# EAGLE library part XEF-216-512-FB236 (library sjg-xmos)
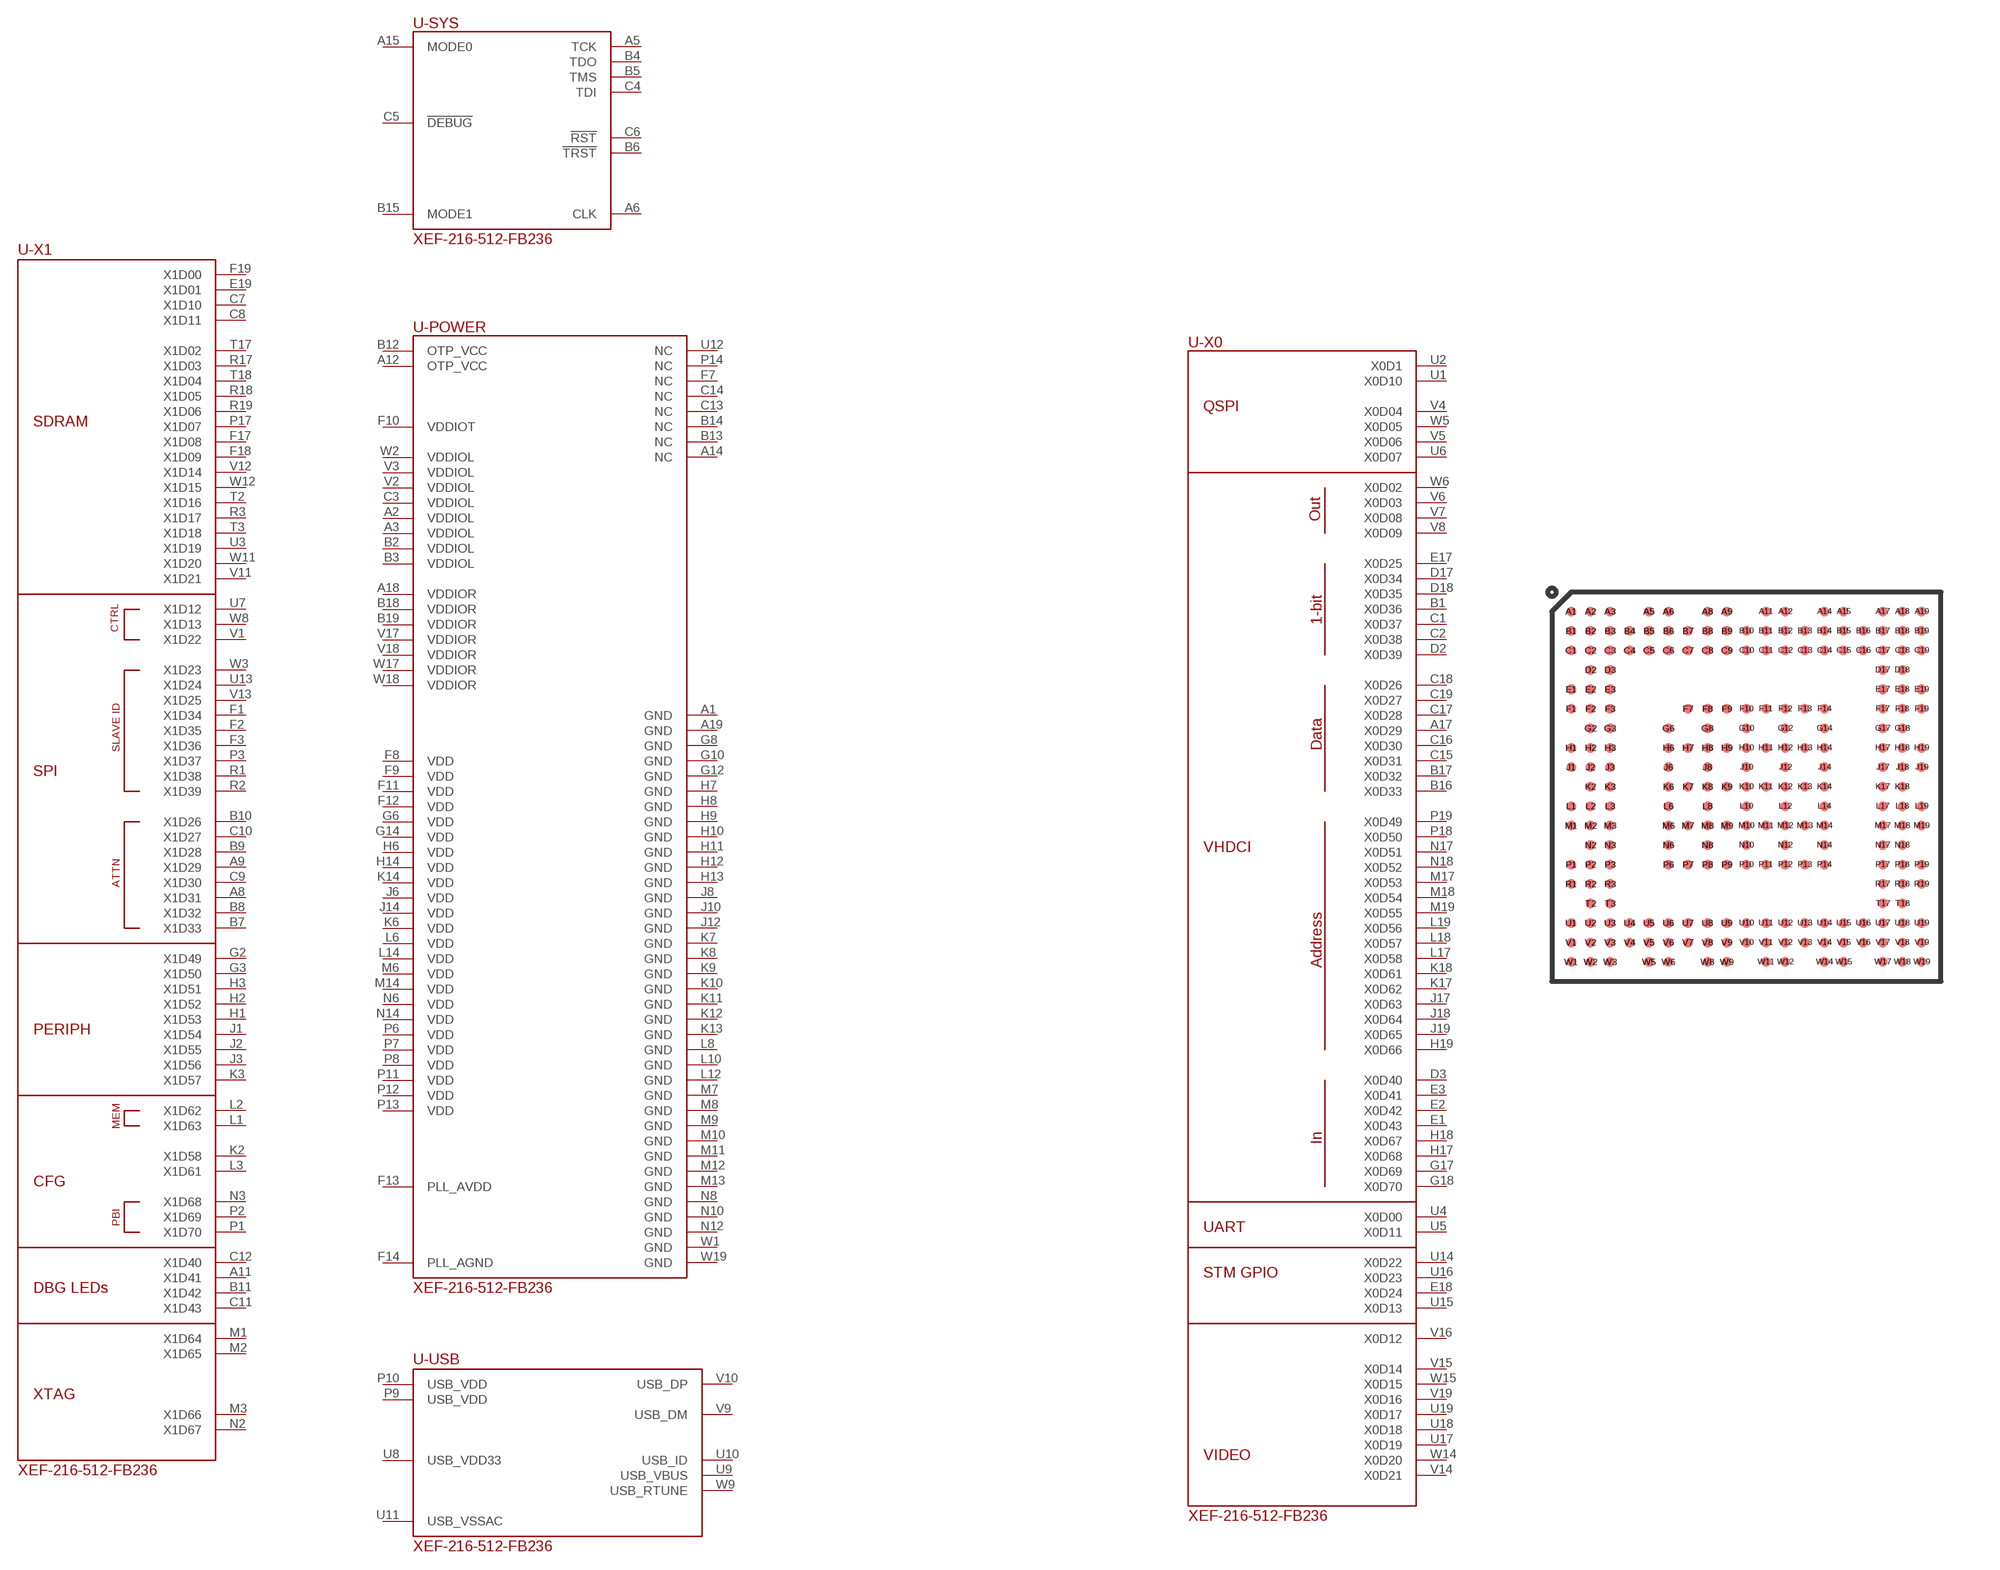
[diagram p5: symbol with the pads of BGA236; footprint BGA236]

Designator prefix -; gates -POWER=XEF-216-512-FB236-PWR -SYS=XEF-216-512-FB236-SYS -USB=XEF-216-512-FB236-USB -X0=XEF-216-512-FB236-X0 -X1=XEF-216-512-FB236-X1

## XEF-216-512-FB236  [BGA236]
A1  -POWER:GND
A2  -POWER:VDDIOL
A3  -POWER:VDDIOL
A5  -SYS:TCK
A6  -SYS:CLK
A8  -X1:X1D31
A9  -X1:X1D29
A11  -X1:X1D41
A12  -POWER:OTP_VCC
A14  -POWER:NC
A15  -SYS:MODE0
A17  -X0:X0D29
A18  -POWER:VDDIOR
A19  -POWER:GND
B1  -X0:X0D36
B2  -POWER:VDDIOL
B3  -POWER:VDDIOL
B4  -SYS:TDO
B5  -SYS:TMS
B6  -SYS:!TRST!
B7  -X1:X1D33
B8  -X1:X1D32
B9  -X1:X1D28
B10  -X1:X1D26
B11  -X1:X1D42
B12  -POWER:OTP_VCC
B13  -POWER:NC
B14  -POWER:NC
B15  -SYS:MODE1
B16  -X0:X0D33
B17  -X0:X0D32
B18  -POWER:VDDIOR
B19  -POWER:VDDIOR
C1  -X0:X0D37
C2  -X0:X0D38
C3  -POWER:VDDIOL
C4  -SYS:TDI
C5  -SYS:!DEBUG!
C6  -SYS:!RST!
C7  -X1:X1D10
C8  -X1:X1D11
C9  -X1:X1D30
C10  -X1:X1D27
C11  -X1:X1D43
C12  -X1:X1D40
C13  -POWER:NC
C14  -POWER:NC
C15  -X0:X0D31
C16  -X0:X0D30
C17  -X0:X0D28
C18  -X0:X0D26
C19  -X0:X0D27
D2  -X0:X0D39
D3  -X0:X0D40
D17  -X0:X0D34
D18  -X0:X0D35
E1  -X0:X0D43
E2  -X0:X0D42
E3  -X0:X0D41
E17  -X0:X0D25
E18  -X0:X0D24
E19  -X1:X1D01
F1  -X1:X1D34
F2  -X1:X1D35
F3  -X1:X1D36
F7  -POWER:NC
F8  -POWER:VDD
F9  -POWER:VDD
F10  -POWER:VDDIOT
F11  -POWER:VDD
F12  -POWER:VDD
F13  -POWER:PLL_AVDD
F14  -POWER:PLL_AGND
F17  -X1:X1D08
F18  -X1:X1D09
F19  -X1:X1D00
G2  -X1:X1D49
G3  -X1:X1D50
G6  -POWER:VDD
G8  -POWER:GND
G10  -POWER:GND
G12  -POWER:GND
G14  -POWER:VDD
G17  -X0:X0D69
G18  -X0:X0D70
H1  -X1:X1D53
H2  -X1:X1D52
H3  -X1:X1D51
H6  -POWER:VDD
H7  -POWER:GND
H8  -POWER:GND
H9  -POWER:GND
H10  -POWER:GND
H11  -POWER:GND
H12  -POWER:GND
H13  -POWER:GND
H14  -POWER:VDD
H17  -X0:X0D68
H18  -X0:X0D67
H19  -X0:X0D66
J1  -X1:X1D54
J2  -X1:X1D55
J3  -X1:X1D56
J6  -POWER:VDD
J8  -POWER:GND
J10  -POWER:GND
J12  -POWER:GND
J14  -POWER:VDD
J17  -X0:X0D63
J18  -X0:X0D64
J19  -X0:X0D65
K2  -X1:X1D58
K3  -X1:X1D57
K6  -POWER:VDD
K7  -POWER:GND
K8  -POWER:GND
K9  -POWER:GND
K10  -POWER:GND
K11  -POWER:GND
K12  -POWER:GND
K13  -POWER:GND
K14  -POWER:VDD
K17  -X0:X0D62
K18  -X0:X0D61
L1  -X1:X1D63
L2  -X1:X1D62
L3  -X1:X1D61
L6  -POWER:VDD
L8  -POWER:GND
L10  -POWER:GND
L12  -POWER:GND
L14  -POWER:VDD
L17  -X0:X0D58
L18  -X0:X0D57
L19  -X0:X0D56
M1  -X1:X1D64
M2  -X1:X1D65
M3  -X1:X1D66
M6  -POWER:VDD
M7  -POWER:GND
M8  -POWER:GND
M9  -POWER:GND
M10  -POWER:GND
M11  -POWER:GND
M12  -POWER:GND
M13  -POWER:GND
M14  -POWER:VDD
M17  -X0:X0D53
M18  -X0:X0D54
M19  -X0:X0D55
N2  -X1:X1D67
N3  -X1:X1D68
N6  -POWER:VDD
N8  -POWER:GND
N10  -POWER:GND
N12  -POWER:GND
N14  -POWER:VDD
N17  -X0:X0D51
N18  -X0:X0D52
P1  -X1:X1D70
P2  -X1:X1D69
P3  -X1:X1D37
P6  -POWER:VDD
P7  -POWER:VDD
P8  -POWER:VDD
P9  -USB:USB_VDD
P10  -USB:USB_VDD
P11  -POWER:VDD
P12  -POWER:VDD
P13  -POWER:VDD
P14  -POWER:NC
P17  -X1:X1D07
P18  -X0:X0D50
P19  -X0:X0D49
R1  -X1:X1D38
R2  -X1:X1D39
R3  -X1:X1D17
R17  -X1:X1D03
R18  -X1:X1D05
R19  -X1:X1D06
T2  -X1:X1D16
T3  -X1:X1D18
T17  -X1:X1D02
T18  -X1:X1D04
U1  -X0:X0D10
U2  -X0:X0D1
U3  -X1:X1D19
U4  -X0:X0D00
U5  -X0:X0D11
U6  -X0:X0D07
U7  -X1:X1D12
U8  -USB:USB_VDD33
U9  -USB:USB_VBUS
U10  -USB:USB_ID
U11  -USB:USB_VSSAC
U12  -POWER:NC
U13  -X1:X1D24
U14  -X0:X0D22
U15  -X0:X0D13
U16  -X0:X0D23
U17  -X0:X0D19
U18  -X0:X0D18
U19  -X0:X0D17
V1  -X1:X1D22
V2  -POWER:VDDIOL
V3  -POWER:VDDIOL
V4  -X0:X0D04
V5  -X0:X0D06
V6  -X0:X0D03
V7  -X0:X0D08
V8  -X0:X0D09
V9  -USB:USB_DM
V10  -USB:USB_DP
V11  -X1:X1D21
V12  -X1:X1D14
V13  -X1:X1D25
V14  -X0:X0D21
V15  -X0:X0D14
V16  -X0:X0D12
V17  -POWER:VDDIOR
V18  -POWER:VDDIOR
V19  -X0:X0D16
W1  -POWER:GND
W2  -POWER:VDDIOL
W3  -X1:X1D23
W5  -X0:X0D05
W6  -X0:X0D02
W8  -X1:X1D13
W9  -USB:USB_RTUNE
W11  -X1:X1D20
W12  -X1:X1D15
W14  -X0:X0D20
W15  -X0:X0D15
W17  -POWER:VDDIOR
W18  -POWER:VDDIOR
W19  -POWER:GND

## Footprint BGA236 (pad centres in mm)
smd 0.25 x 0.25: A1 -4.5,4.5; A2 -4,4.5; A3 -3.5,4.5; A5 -2.5,4.5; A6 -2,4.5; A8 -1,4.5; A9 -0.5,4.5; A11 0.5,4.5; A12 1,4.5; A14 2,4.5; A15 2.5,4.5; A17 3.5,4.5; A18 4,4.5; A19 4.5,4.5; B1 -4.5,4; B2 -4,4; B3 -3.5,4; B4 -3,4; B5 -2.5,4; B6 -2,4; B7 -1.5,4; B8 -1,4; B9 -0.5,4; B10 0,4; B11 0.5,4; B12 1,4; B13 1.5,4; B14 2,4; B15 2.5,4; B16 3,4; B17 3.5,4; B18 4,4; B19 4.5,4; C1 -4.5,3.5; C2 -4,3.5; C3 -3.5,3.5; C4 -3,3.5; C5 -2.5,3.5; C6 -2,3.5; C7 -1.5,3.5; C8 -1,3.5; C9 -0.5,3.5; C10 0,3.5; C11 0.5,3.5; C12 1,3.5; C13 1.5,3.5; C14 2,3.5; C15 2.5,3.5; C16 3,3.5; C17 3.5,3.5; C18 4,3.5; C19 4.5,3.5; D2 -4,3; D3 -3.5,3; D17 3.5,3; D18 4,3; E1 -4.5,2.5; E2 -4,2.5; E3 -3.5,2.5; E17 3.5,2.5; E18 4,2.5; E19 4.5,2.5; F1 -4.5,2; F2 -4,2; F3 -3.5,2; F7 -1.5,2; F8 -1,2; F9 -0.5,2; F10 0,2; F11 0.5,2; F12 1,2; F13 1.5,2; F14 2,2; F17 3.5,2; F18 4,2; F19 4.5,2; G2 -4,1.5; G3 -3.5,1.5; G6 -2,1.5; G8 -1,1.5; G10 0,1.5; G12 1,1.5; G14 2,1.5; G17 3.5,1.5; G18 4,1.5; H1 -4.5,1; H2 -4,1; H3 -3.5,1; H6 -2,1; H7 -1.5,1; H8 -1,1; H9 -0.5,1; H10 0,1; H11 0.5,1; H12 1,1; H13 1.5,1; H14 2,1; H17 3.5,1; H18 4,1; H19 4.5,1; J1 -4.5,0.5; J2 -4,0.5; J3 -3.5,0.5; J6 -2,0.5; J8 -1,0.5; J10 0,0.5; J12 1,0.5; J14 2,0.5; J17 3.5,0.5; J18 4,0.5; J19 4.5,0.5; K2 -4,0; K3 -3.5,0; K6 -2,0; K7 -1.5,0; K8 -1,0; K9 -0.5,0; K10 0,0; K11 0.5,0; K12 1,0; K13 1.5,0; K14 2,0; K17 3.5,0; K18 4,0; L1 -4.5,-0.5; L2 -4,-0.5; L3 -3.5,-0.5; L6 -2,-0.5; L8 -1,-0.5; L10 0,-0.5; L12 1,-0.5; L14 2,-0.5; L17 3.5,-0.5; L18 4,-0.5; L19 4.5,-0.5; M1 -4.5,-1; M2 -4,-1; M3 -3.5,-1; M6 -2,-1; M7 -1.5,-1; M8 -1,-1; M9 -0.5,-1; M10 0,-1; M11 0.5,-1; M12 1,-1; M13 1.5,-1; M14 2,-1; M17 3.5,-1; M18 4,-1; M19 4.5,-1; N2 -4,-1.5; N3 -3.5,-1.5; N6 -2,-1.5; N8 -1,-1.5; N10 0,-1.5; N12 1,-1.5; N14 2,-1.5; N17 3.5,-1.5; N18 4,-1.5; P1 -4.5,-2; P2 -4,-2; P3 -3.5,-2; P6 -2,-2; P7 -1.5,-2; P8 -1,-2; P9 -0.5,-2; P10 0,-2; P11 0.5,-2; P12 1,-2; P13 1.5,-2; P14 2,-2; P17 3.5,-2; P18 4,-2; P19 4.5,-2; R1 -4.5,-2.5; R2 -4,-2.5; R3 -3.5,-2.5; R17 3.5,-2.5; R18 4,-2.5; R19 4.5,-2.5; T2 -4,-3; T3 -3.5,-3; T17 3.5,-3; T18 4,-3; U1 -4.5,-3.5; U2 -4,-3.5; U3 -3.5,-3.5; U4 -3,-3.5; U5 -2.5,-3.5; U6 -2,-3.5; U7 -1.5,-3.5; U8 -1,-3.5; U9 -0.5,-3.5; U10 0,-3.5; U11 0.5,-3.5; U12 1,-3.5; U13 1.5,-3.5; U14 2,-3.5; U15 2.5,-3.5; U16 3,-3.5; U17 3.5,-3.5; U18 4,-3.5; U19 4.5,-3.5; V1 -4.5,-4; V2 -4,-4; V3 -3.5,-4; V4 -3,-4; V5 -2.5,-4; V6 -2,-4; V7 -1.5,-4; V8 -1,-4; V9 -0.5,-4; V10 0,-4; V11 0.5,-4; V12 1,-4; V13 1.5,-4; V14 2,-4; V15 2.5,-4; V16 3,-4; V17 3.5,-4; V18 4,-4; V19 4.5,-4; W1 -4.5,-4.5; W2 -4,-4.5; W3 -3.5,-4.5; W5 -2.5,-4.5; W6 -2,-4.5; W8 -1,-4.5; W9 -0.5,-4.5; W11 0.5,-4.5; W12 1,-4.5; W14 2,-4.5; W15 2.5,-4.5; W17 3.5,-4.5; W18 4,-4.5; W19 4.5,-4.5